# EAGLE library part TERA-PROG-DEBUG-10 (library useful)
TERA-Prog-Debug Connector 10-Pol
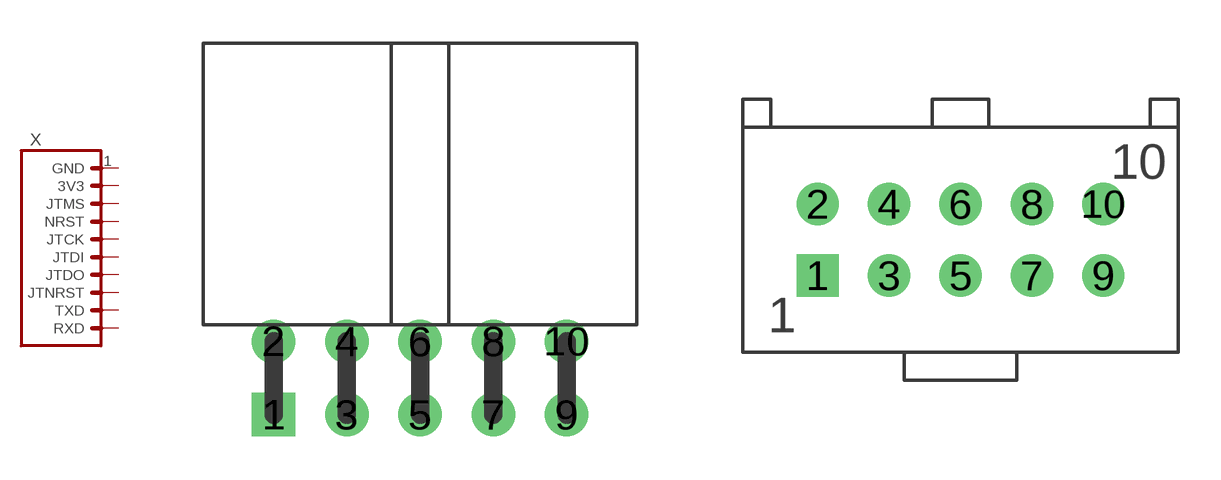
[diagram p2: symbol with the pads of 90130-3210; footprints 90130-3210, 90130-1110]

Designator prefix X

## TERA-PROG-DEBUG-10RECHTWINKELIG  [90130-3210]
1  GND  pas
2  3V3  pas
3  JTMS  pas
4  NRST  pas
5  JTCK  pas
6  JTDI  pas
7  JTDO  pas
8  JTNRST  pas
9  TXD  pas
10  RXD  pas

## TERA-PROG-DEBUG-10GERADE  [90130-1110]
Pads as for 90130-3210

## Footprint 90130-3210 (pad centres in mm)
drill 1 square: 1 0,0
drill 1: 2 0,2.54; 3 2.54,0; 4 2.54,2.54; 5 5.08,0; 6 5.08,2.54; 7 7.62,0; 8 7.62,2.54; 9 10.16,0; 10 10.16,2.54

## Footprint 90130-1110 (pad centres in mm)
drill 1 square: 1 -5.08,-1.27
drill 1: 2 -5.08,1.27; 3 -2.54,-1.27; 4 -2.54,1.27; 5 0,-1.27; 6 0,1.27; 7 2.54,-1.27; 8 2.54,1.27; 9 5.08,-1.27; 10 5.08,1.27